# Altium footprint library Connector_PinSocket_2.00mm.PcbLib: 278 footprints (part 9 of 18)
Each footprint in its own frame and in the unit in brackets; x right, y up, seen from the top. Pads: shape width x height; smd on the part's side, far side on the other; paste and mask are expansions set on the pad; w line width, h text height; cw(c..) or ccw(c..) is an arc to the next point about the centre after c.
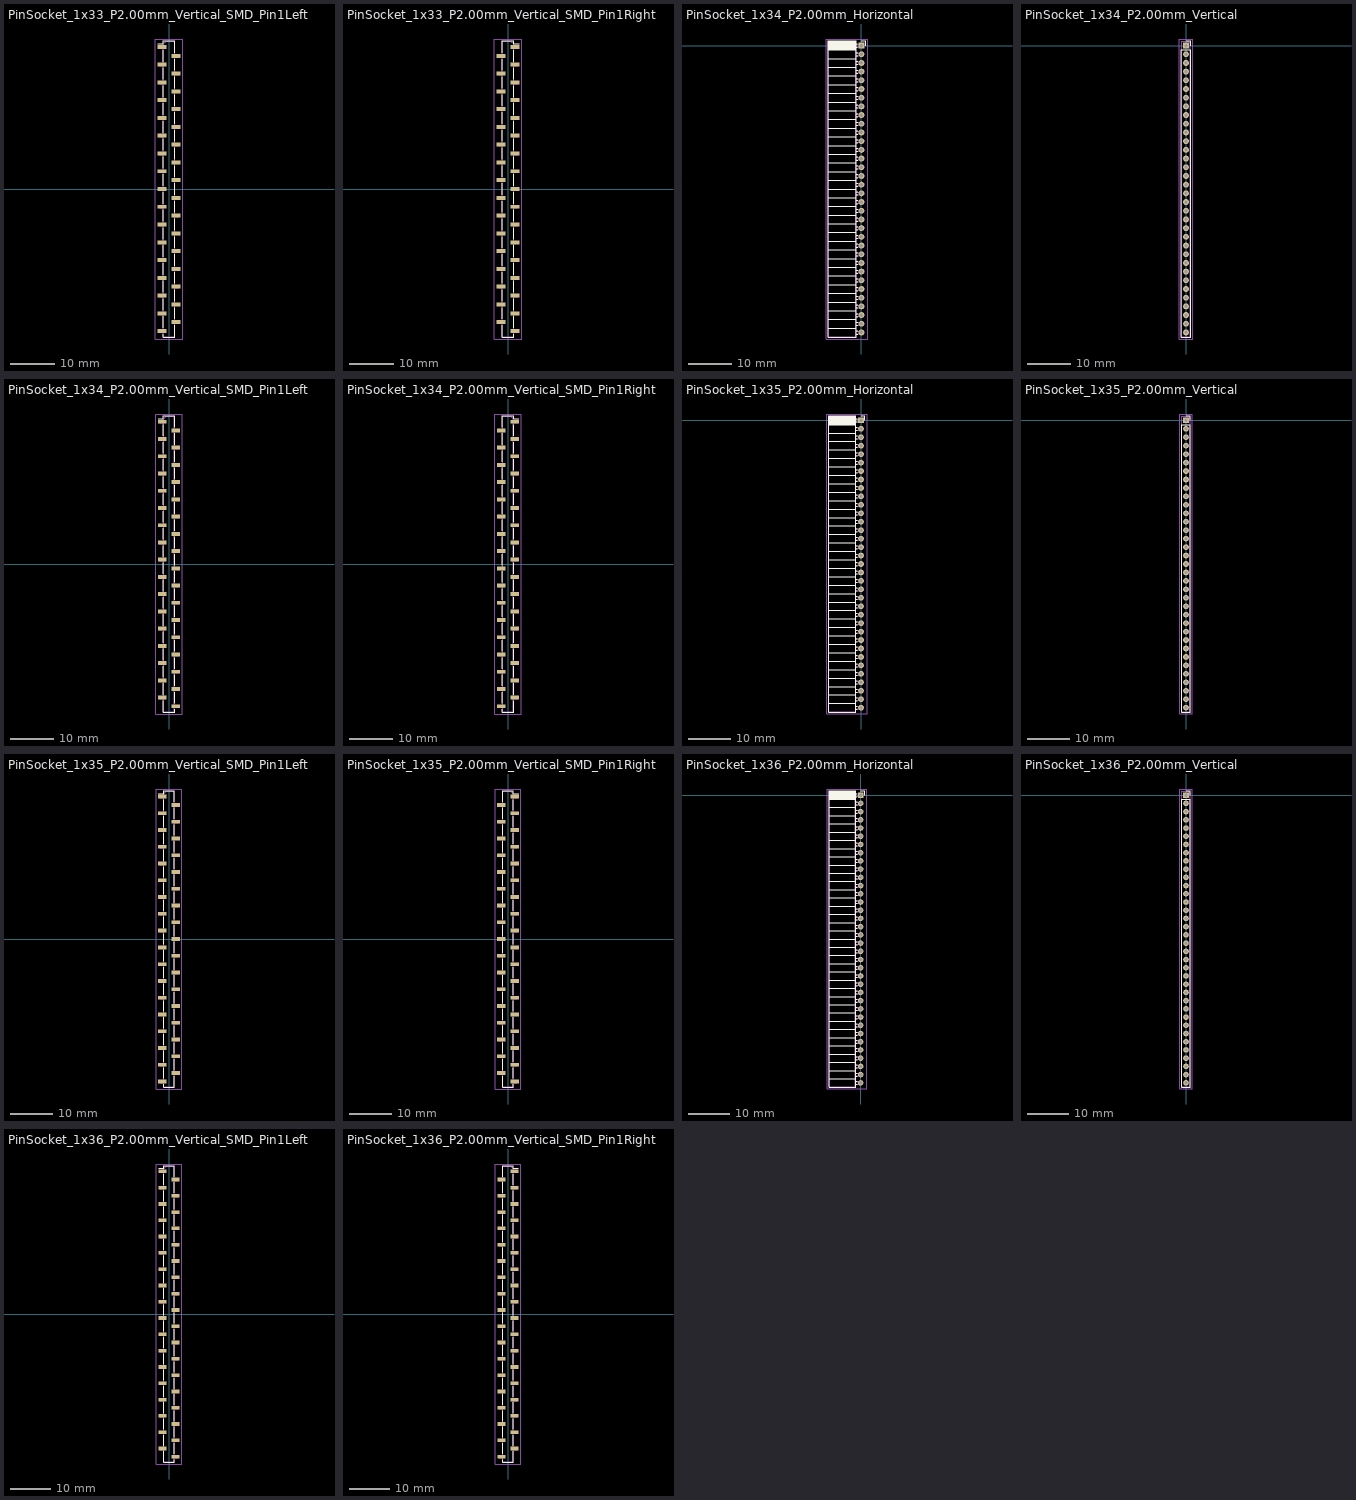
[diagram p8: the footprints below, top view; thin cyan lines are the x and y axes]

## PinSocket_1x33_P2.00mm_Vertical_SMD_Pin1Left [mm]
pads (33):
  rect 2x0.9 smd: 1(-1.6,32) 2(1.6,30) 3(-1.6,28) 4(1.6,26) 5(-1.6,24) 6(1.6,22) 7(-1.6,20) 8(1.6,18) 9(-1.6,16) 10(1.6,14) 11(-1.6,12) 12(1.6,10) 13(-1.6,8) 14(1.6,6) 15(-1.6,4) 16(1.6,2) 17(-1.6,0) 18(1.6,-2) 19(-1.6,-4) 20(1.6,-6) 21(-1.6,-8) 22(1.6,-10) 23(-1.6,-12) 24(1.6,-14) 25(-1.6,-16) 26(1.6,-18) 27(-1.6,-20) 28(1.6,-22) 29(-1.6,-24) 30(1.6,-26) 31(-1.6,-28) 32(1.6,-30) 33(-1.6,-32)
F.SilkS:
  lines w0.254: -2.54,32.71 -1.31,32.71 -1.31,33.36 1.31,33.36 1.31,30.71 ; -1.31,-32.71 -1.31,-33.36 1.31,-33.36 1.31,-30.71 ; -1.31,-31.29 -1.31,-28.71 ; -1.31,-27.29 -1.31,-24.71 ; -1.31,-23.29 -1.31,-20.71 ; -1.31,-19.29 -1.31,-16.71 ; -1.31,-15.29 -1.31,-12.71 ; -1.31,-11.29 -1.31,-8.71 ; -1.31,-7.29 -1.31,-4.71 ; -1.31,-3.29 -1.31,-0.71 ; -1.31,0.71 -1.31,3.29 ; -1.31,4.71 -1.31,7.29 ; -1.31,8.71 -1.31,11.29 ; -1.31,12.71 -1.31,15.29 ; -1.31,16.71 -1.31,19.29 ; -1.31,20.71 -1.31,23.29 ; -1.31,24.71 -1.31,27.29 ; -1.31,28.71 -1.31,31.29 ; 1.31,-29.29 1.31,-26.71 ; 1.31,-25.29 1.31,-22.71 ; 1.31,-21.29 1.31,-18.71 ; 1.31,-17.29 1.31,-14.71 ; 1.31,-13.29 1.31,-10.71 ; 1.31,-9.29 1.31,-6.71 ; 1.31,-5.29 1.31,-2.71 ; 1.31,-1.29 1.31,1.29 ; 1.31,2.71 1.31,5.29 ; 1.31,6.71 1.31,9.29 ; 1.31,10.71 1.31,13.29 ; 1.31,14.71 1.31,17.29 ; 1.31,18.71 1.31,21.29 ; 1.31,22.71 1.31,25.29 ; 1.31,26.71 1.31,29.29
Top Assembly:
  lines w0.254: -1.25,-32.25 -2.1,-32.25 -2.1,-31.75 -1.25,-31.75 ; -1.25,-28.25 -2.1,-28.25 -2.1,-27.75 -1.25,-27.75 ; -1.25,-24.25 -2.1,-24.25 -2.1,-23.75 -1.25,-23.75 ; -1.25,-20.25 -2.1,-20.25 -2.1,-19.75 -1.25,-19.75 ; -1.25,-16.25 -2.1,-16.25 -2.1,-15.75 -1.25,-15.75 ; -1.25,-12.25 -2.1,-12.25 -2.1,-11.75 -1.25,-11.75 ; -1.25,-8.25 -2.1,-8.25 -2.1,-7.75 -1.25,-7.75 ; -1.25,-4.25 -2.1,-4.25 -2.1,-3.75 -1.25,-3.75 ; -1.25,-0.25 -2.1,-0.25 -2.1,0.25 -1.25,0.25 ; -1.25,3.75 -2.1,3.75 -2.1,4.25 -1.25,4.25 ; -1.25,7.75 -2.1,7.75 -2.1,8.25 -1.25,8.25 ; -1.25,11.75 -2.1,11.75 -2.1,12.25 -1.25,12.25 ; -1.25,15.75 -2.1,15.75 -2.1,16.25 -1.25,16.25 ; -1.25,19.75 -2.1,19.75 -2.1,20.25 -1.25,20.25 ; -1.25,23.75 -2.1,23.75 -2.1,24.25 -1.25,24.25 ; -1.25,27.75 -2.1,27.75 -2.1,28.25 -1.25,28.25 ; -1.25,31.75 -2.1,31.75 -2.1,32.25 -1.25,32.25 ; 1.25,-30.25 2.1,-30.25 2.1,-29.75 1.25,-29.75 ; 1.25,-26.25 2.1,-26.25 2.1,-25.75 1.25,-25.75 ; 1.25,-22.25 2.1,-22.25 2.1,-21.75 1.25,-21.75 ; 1.25,-18.25 2.1,-18.25 2.1,-17.75 1.25,-17.75 ; 1.25,-14.25 2.1,-14.25 2.1,-13.75 1.25,-13.75 ; 1.25,-10.25 2.1,-10.25 2.1,-9.75 1.25,-9.75 ; 1.25,-6.25 2.1,-6.25 2.1,-5.75 1.25,-5.75 ; 1.25,-2.25 2.1,-2.25 2.1,-1.75 1.25,-1.75 ; 1.25,1.75 2.1,1.75 2.1,2.25 1.25,2.25 ; 1.25,5.75 2.1,5.75 2.1,6.25 1.25,6.25 ; 1.25,9.75 2.1,9.75 2.1,10.25 1.25,10.25 ; 1.25,13.75 2.1,13.75 2.1,14.25 1.25,14.25 ; 1.25,17.75 2.1,17.75 2.1,18.25 1.25,18.25 ; 1.25,21.75 2.1,21.75 2.1,22.25 1.25,22.25 ; 1.25,25.75 2.1,25.75 2.1,26.25 1.25,26.25 ; 1.25,29.75 2.1,29.75 2.1,30.25 1.25,30.25 ; -1.25,-33.3 1.25,-33.3 1.25,33.3 -0.625,33.3 -1.25,32.675 -1.25,-33.3
  text "'.Designator'" at 0.84,-4.047 h1
Top Courtyard:
  lines w0.254: -3.1,-33.8 3.1,-33.8 3.1,33.8 -3.1,33.8 -3.1,-33.8
Top Designator:
  text ".Designator" at -7.618,-0.508 h1.52

## PinSocket_1x33_P2.00mm_Vertical_SMD_Pin1Right [mm]
pads (33):
  rect 2x0.9 smd: 1(1.6,32) 2(-1.6,30) 3(1.6,28) 4(-1.6,26) 5(1.6,24) 6(-1.6,22) 7(1.6,20) 8(-1.6,18) 9(1.6,16) 10(-1.6,14) 11(1.6,12) 12(-1.6,10) 13(1.6,8) 14(-1.6,6) 15(1.6,4) 16(-1.6,2) 17(1.6,0) 18(-1.6,-2) 19(1.6,-4) 20(-1.6,-6) 21(1.6,-8) 22(-1.6,-10) 23(1.6,-12) 24(-1.6,-14) 25(1.6,-16) 26(-1.6,-18) 27(1.6,-20) 28(-1.6,-22) 29(1.6,-24) 30(-1.6,-26) 31(1.6,-28) 32(-1.6,-30) 33(1.6,-32)
F.SilkS:
  lines w0.254: -1.31,-30.71 -1.31,-33.36 1.31,-33.36 1.31,-32.71 ; -1.31,-29.29 -1.31,-26.71 ; -1.31,-25.29 -1.31,-22.71 ; -1.31,-21.29 -1.31,-18.71 ; -1.31,-17.29 -1.31,-14.71 ; -1.31,-13.29 -1.31,-10.71 ; -1.31,-9.29 -1.31,-6.71 ; -1.31,-5.29 -1.31,-2.71 ; -1.31,-1.29 -1.31,1.29 ; -1.31,2.71 -1.31,5.29 ; -1.31,6.71 -1.31,9.29 ; -1.31,10.71 -1.31,13.29 ; -1.31,14.71 -1.31,17.29 ; -1.31,18.71 -1.31,21.29 ; -1.31,22.71 -1.31,25.29 ; -1.31,26.71 -1.31,29.29 ; -1.31,30.71 -1.31,33.36 1.31,33.36 1.31,32.71 2.54,32.71 ; 1.31,-31.29 1.31,-28.71 ; 1.31,-27.29 1.31,-24.71 ; 1.31,-23.29 1.31,-20.71 ; 1.31,-19.29 1.31,-16.71 ; 1.31,-15.29 1.31,-12.71 ; 1.31,-11.29 1.31,-8.71 ; 1.31,-7.29 1.31,-4.71 ; 1.31,-3.29 1.31,-0.71 ; 1.31,0.71 1.31,3.29 ; 1.31,4.71 1.31,7.29 ; 1.31,8.71 1.31,11.29 ; 1.31,12.71 1.31,15.29 ; 1.31,16.71 1.31,19.29 ; 1.31,20.71 1.31,23.29 ; 1.31,24.71 1.31,27.29 ; 1.31,28.71 1.31,31.29
Top Assembly:
  lines w0.254: -1.25,-30.25 -2.1,-30.25 -2.1,-29.75 -1.25,-29.75 ; -1.25,-26.25 -2.1,-26.25 -2.1,-25.75 -1.25,-25.75 ; -1.25,-22.25 -2.1,-22.25 -2.1,-21.75 -1.25,-21.75 ; -1.25,-18.25 -2.1,-18.25 -2.1,-17.75 -1.25,-17.75 ; -1.25,-14.25 -2.1,-14.25 -2.1,-13.75 -1.25,-13.75 ; -1.25,-10.25 -2.1,-10.25 -2.1,-9.75 -1.25,-9.75 ; -1.25,-6.25 -2.1,-6.25 -2.1,-5.75 -1.25,-5.75 ; -1.25,-2.25 -2.1,-2.25 -2.1,-1.75 -1.25,-1.75 ; -1.25,1.75 -2.1,1.75 -2.1,2.25 -1.25,2.25 ; -1.25,5.75 -2.1,5.75 -2.1,6.25 -1.25,6.25 ; -1.25,9.75 -2.1,9.75 -2.1,10.25 -1.25,10.25 ; -1.25,13.75 -2.1,13.75 -2.1,14.25 -1.25,14.25 ; -1.25,17.75 -2.1,17.75 -2.1,18.25 -1.25,18.25 ; -1.25,21.75 -2.1,21.75 -2.1,22.25 -1.25,22.25 ; -1.25,25.75 -2.1,25.75 -2.1,26.25 -1.25,26.25 ; -1.25,29.75 -2.1,29.75 -2.1,30.25 -1.25,30.25 ; 1.25,-32.25 2.1,-32.25 2.1,-31.75 1.25,-31.75 ; 1.25,-28.25 2.1,-28.25 2.1,-27.75 1.25,-27.75 ; 1.25,-24.25 2.1,-24.25 2.1,-23.75 1.25,-23.75 ; 1.25,-20.25 2.1,-20.25 2.1,-19.75 1.25,-19.75 ; 1.25,-16.25 2.1,-16.25 2.1,-15.75 1.25,-15.75 ; 1.25,-12.25 2.1,-12.25 2.1,-11.75 1.25,-11.75 ; 1.25,-8.25 2.1,-8.25 2.1,-7.75 1.25,-7.75 ; 1.25,-4.25 2.1,-4.25 2.1,-3.75 1.25,-3.75 ; 1.25,-0.25 2.1,-0.25 2.1,0.25 1.25,0.25 ; 1.25,3.75 2.1,3.75 2.1,4.25 1.25,4.25 ; 1.25,7.75 2.1,7.75 2.1,8.25 1.25,8.25 ; 1.25,11.75 2.1,11.75 2.1,12.25 1.25,12.25 ; 1.25,15.75 2.1,15.75 2.1,16.25 1.25,16.25 ; 1.25,19.75 2.1,19.75 2.1,20.25 1.25,20.25 ; 1.25,23.75 2.1,23.75 2.1,24.25 1.25,24.25 ; 1.25,27.75 2.1,27.75 2.1,28.25 1.25,28.25 ; 1.25,31.75 2.1,31.75 2.1,32.25 1.25,32.25 ; -1.25,-33.3 1.25,-33.3 1.25,32.675 0.625,33.3 -1.25,33.3 -1.25,-33.3
  text "'.Designator'" at 0.84,-4.047 h1
Top Courtyard:
  lines w0.254: -3.1,-33.8 3.1,-33.8 3.1,33.8 -3.1,33.8 -3.1,-33.8
Top Designator:
  text ".Designator" at -7.618,-0.508 h1.52

## PinSocket_1x34_P2.00mm_Horizontal [mm]
pads (34):
  rect 1.35x1.35 hole 0.8: 1(0,0)
  round 1.35 hole 0.8: 2(0,-2) 3(0,-4) 4(0,-6) 5(0,-8) 6(0,-10) 7(0,-12) 8(0,-14) 9(0,-16) 10(0,-18) 11(0,-20) 12(0,-22) 13(0,-24) 14(0,-26) 15(0,-28) 16(0,-30) 17(0,-32) 18(0,-34) 19(0,-36) 20(0,-38) 21(0,-40) 22(0,-42) 23(0,-44) 24(0,-46) 25(0,-48) 26(0,-50) 27(0,-52) 28(0,-54) 29(0,-56) 30(0,-58) 31(0,-60) 32(0,-62) 33(0,-64) 34(0,-66)
F.SilkS:
  lines w0.254: -7.68,-65 -1.21,-65 ; -7.68,-63 -1.21,-63 ; -7.68,-61 -1.21,-61 ; -7.68,-59 -1.21,-59 ; -7.68,-57 -1.21,-57 ; -7.68,-55 -1.21,-55 ; -7.68,-53 -1.21,-53 ; -7.68,-51 -1.21,-51 ; -7.68,-49 -1.21,-49 ; -7.68,-47 -1.21,-47 ; -7.68,-45 -1.21,-45 ; -7.68,-43 -1.21,-43 ; -7.68,-41 -1.21,-41 ; -7.68,-39 -1.21,-39 ; -7.68,-37 -1.21,-37 ; -7.68,-35 -1.21,-35 ; -7.68,-33 -1.21,-33 ; -7.68,-31 -1.21,-31 ; -7.68,-29 -1.21,-29 ; -7.68,-27 -1.21,-27 ; -7.68,-25 -1.21,-25 ; -7.68,-23 -1.21,-23 ; -7.68,-21 -1.21,-21 ; -7.68,-19 -1.21,-19 ; -7.68,-17 -1.21,-17 ; -7.68,-15 -1.21,-15 ; -7.68,-13 -1.21,-13 ; -7.68,-11 -1.21,-11 ; -7.68,-9 -1.21,-9 ; -7.68,-7 -1.21,-7 ; -7.68,-5 -1.21,-5 ; -7.68,-3 -1.21,-3 ; -7.68,-1 -1.21,-1 ; -7.68,-0.886 -1.21,-0.886 ; -7.68,-0.772 -1.21,-0.772 ; -7.68,-0.658 -1.21,-0.658 ; -7.68,-0.544 -1.21,-0.544 ; -7.68,-0.429 -1.21,-0.429 ; -7.68,-0.315 -1.21,-0.315 ; -7.68,-0.201 -1.21,-0.201 ; -7.68,-0.087 -1.21,-0.087 ; -7.68,0.027 -1.21,0.027 ; -7.68,0.141 -1.21,0.141 ; -7.68,0.255 -1.21,0.255 ; -7.68,0.369 -1.21,0.369 ; -7.68,0.484 -1.21,0.484 ; -7.68,0.598 -1.21,0.598 ; -7.68,0.712 -1.21,0.712 ; -7.68,0.826 -1.21,0.826 ; -7.68,0.94 -1.21,0.94 ; -1.21,-66.36 -0.863,-66.36 ; -1.21,-65.64 -0.863,-65.64 ; -1.21,-64.36 -0.863,-64.36 ; -1.21,-63.64 -0.863,-63.64 ; -1.21,-62.36 -0.863,-62.36 ; -1.21,-61.64 -0.863,-61.64 ; -1.21,-60.36 -0.863,-60.36 ; -1.21,-59.64 -0.863,-59.64 ; -1.21,-58.36 -0.863,-58.36 ; -1.21,-57.64 -0.863,-57.64 ; -1.21,-56.36 -0.863,-56.36 ; -1.21,-55.64 -0.863,-55.64 ; -1.21,-54.36 -0.863,-54.36 ; -1.21,-53.64 -0.863,-53.64 ; -1.21,-52.36 -0.863,-52.36 ; -1.21,-51.64 -0.863,-51.64 ; -1.21,-50.36 -0.863,-50.36 ; -1.21,-49.64 -0.863,-49.64 ; -1.21,-48.36 -0.863,-48.36 ; -1.21,-47.64 -0.863,-47.64 ; -1.21,-46.36 -0.863,-46.36 ; -1.21,-45.64 -0.863,-45.64 ; -1.21,-44.36 -0.863,-44.36 ; -1.21,-43.64 -0.863,-43.64 ; -1.21,-42.36 -0.863,-42.36 ; -1.21,-41.64 -0.863,-41.64 ; -1.21,-40.36 -0.863,-40.36 ; -1.21,-39.64 -0.863,-39.64 ; -1.21,-38.36 -0.863,-38.36 ; -1.21,-37.64 -0.863,-37.64 ; -1.21,-36.36 -0.863,-36.36 ; -1.21,-35.64 -0.863,-35.64 ; -1.21,-34.36 -0.863,-34.36 ; -1.21,-33.64 -0.863,-33.64 ; -1.21,-32.36 -0.863,-32.36 ; -1.21,-31.64 -0.863,-31.64 ; -1.21,-30.36 -0.863,-30.36 ; -1.21,-29.64 -0.863,-29.64 ; -1.21,-28.36 -0.863,-28.36 ; -1.21,-27.64 -0.863,-27.64 ; -1.21,-26.36 -0.863,-26.36 ; -1.21,-25.64 -0.863,-25.64 ; -1.21,-24.36 -0.863,-24.36 ; -1.21,-23.64 -0.863,-23.64 ; -1.21,-22.36 -0.863,-22.36 ; -1.21,-21.64 -0.863,-21.64 ; -1.21,-20.36 -0.863,-20.36 ; -1.21,-19.64 -0.863,-19.64 ; -1.21,-18.36 -0.863,-18.36 ; -1.21,-17.64 -0.863,-17.64 ; -1.21,-16.36 -0.863,-16.36 ; -1.21,-15.64 -0.863,-15.64 ; -1.21,-14.36 -0.863,-14.36 ; -1.21,-13.64 -0.863,-13.64 ; -1.21,-12.36 -0.863,-12.36 ; -1.21,-11.64 -0.863,-11.64 ; -1.21,-10.36 -0.863,-10.36 ; -1.21,-9.64 -0.863,-9.64 ; -1.21,-8.36 -0.863,-8.36 ; -1.21,-7.64 -0.863,-7.64 ; -1.21,-6.36 -0.863,-6.36 ; -1.21,-5.64 -0.863,-5.64 ; -1.21,-4.36 -0.863,-4.36 ; -1.21,-3.64 -0.863,-3.64 ; -1.21,-2.36 -0.863,-2.36 ; -1.21,-1.64 -0.863,-1.64 ; -1.21,-0.36 -0.935,-0.36 ; -1.21,0.36 -0.935,0.36 ; 0,1.06 0.935,1.06 0.935,0 ; -7.68,-67.06 -1.21,-67.06 -1.21,1.06 -7.68,1.06 -7.68,-67.06
Top Assembly:
  lines w0.254: -1.27,-66.3 0,-66.3 0,-65.7 -1.27,-65.7 ; -1.27,-64.3 0,-64.3 0,-63.7 -1.27,-63.7 ; -1.27,-62.3 0,-62.3 0,-61.7 -1.27,-61.7 ; -1.27,-60.3 0,-60.3 0,-59.7 -1.27,-59.7 ; -1.27,-58.3 0,-58.3 0,-57.7 -1.27,-57.7 ; -1.27,-56.3 0,-56.3 0,-55.7 -1.27,-55.7 ; -1.27,-54.3 0,-54.3 0,-53.7 -1.27,-53.7 ; -1.27,-52.3 0,-52.3 0,-51.7 -1.27,-51.7 ; -1.27,-50.3 0,-50.3 0,-49.7 -1.27,-49.7 ; -1.27,-48.3 0,-48.3 0,-47.7 -1.27,-47.7 ; -1.27,-46.3 0,-46.3 0,-45.7 -1.27,-45.7 ; -1.27,-44.3 0,-44.3 0,-43.7 -1.27,-43.7 ; -1.27,-42.3 0,-42.3 0,-41.7 -1.27,-41.7 ; -1.27,-40.3 0,-40.3 0,-39.7 -1.27,-39.7 ; -1.27,-38.3 0,-38.3 0,-37.7 -1.27,-37.7 ; -1.27,-36.3 0,-36.3 0,-35.7 -1.27,-35.7 ; -1.27,-34.3 0,-34.3 0,-33.7 -1.27,-33.7 ; -1.27,-32.3 0,-32.3 0,-31.7 -1.27,-31.7 ; -1.27,-30.3 0,-30.3 0,-29.7 -1.27,-29.7 ; -1.27,-28.3 0,-28.3 0,-27.7 -1.27,-27.7 ; -1.27,-26.3 0,-26.3 0,-25.7 -1.27,-25.7 ; -1.27,-24.3 0,-24.3 0,-23.7 -1.27,-23.7 ; -1.27,-22.3 0,-22.3 0,-21.7 -1.27,-21.7 ; -1.27,-20.3 0,-20.3 0,-19.7 -1.27,-19.7 ; -1.27,-18.3 0,-18.3 0,-17.7 -1.27,-17.7 ; -1.27,-16.3 0,-16.3 0,-15.7 -1.27,-15.7 ; -1.27,-14.3 0,-14.3 0,-13.7 -1.27,-13.7 ; -1.27,-12.3 0,-12.3 0,-11.7 -1.27,-11.7 ; -1.27,-10.3 0,-10.3 0,-9.7 -1.27,-9.7 ; -1.27,-8.3 0,-8.3 0,-7.7 -1.27,-7.7 ; -1.27,-6.3 0,-6.3 0,-5.7 -1.27,-5.7 ; -1.27,-4.3 0,-4.3 0,-3.7 -1.27,-3.7 ; -1.27,-2.3 0,-2.3 0,-1.7 -1.27,-1.7 ; -1.27,-0.3 0,-0.3 0,0.3 -1.27,0.3 ; -1.27,0.3 -1.27,-67 -7.62,-67 -7.62,1 -1.97,1 -1.27,0.3
  text "'.Designator'" at -3.605,-37.047 h1
Top Courtyard:
  lines w0.254: -8.15,-67.5 1.5,-67.5 1.5,1.5 -8.15,1.5 -8.15,-67.5
Top Designator:
  text ".Designator" at -10.943,-33.508 h1.52

## PinSocket_1x34_P2.00mm_Vertical [mm]
pads (34):
  rect 1.35x1.35 hole 0.8: 1(0,0)
  round 1.35 hole 0.8: 2(0,-2) 3(0,-4) 4(0,-6) 5(0,-8) 6(0,-10) 7(0,-12) 8(0,-14) 9(0,-16) 10(0,-18) 11(0,-20) 12(0,-22) 13(0,-24) 14(0,-26) 15(0,-28) 16(0,-30) 17(0,-32) 18(0,-34) 19(0,-36) 20(0,-38) 21(0,-40) 22(0,-42) 23(0,-44) 24(0,-46) 25(0,-48) 26(0,-50) 27(0,-52) 28(0,-54) 29(0,-56) 30(0,-58) 31(0,-60) 32(0,-62) 33(0,-64) 34(0,-66)
F.SilkS:
  lines w0.254: 0,1.06 1.06,1.06 1.06,0 ; -1.06,-67.06 1.06,-67.06 1.06,-1 -1.06,-1 -1.06,-67.06
Top Assembly:
  lines w0.254: -1,-67 1,-67 1,0.5 0.5,1 -1,1 -1,-67
  text "'.Designator'" at 0.84,-37.047 h1
Top Courtyard:
  lines w0.254: -1.5,-67.5 1.5,-67.5 1.5,1.5 -1.5,1.5 -1.5,-67.5
Top Designator:
  text ".Designator" at -7.618,-33.508 h1.52

## PinSocket_1x34_P2.00mm_Vertical_SMD_Pin1Left [mm]
pads (34):
  rect 2x0.9 smd: 1(-1.6,33) 2(1.6,31) 3(-1.6,29) 4(1.6,27) 5(-1.6,25) 6(1.6,23) 7(-1.6,21) 8(1.6,19) 9(-1.6,17) 10(1.6,15) 11(-1.6,13) 12(1.6,11) 13(-1.6,9) 14(1.6,7) 15(-1.6,5) 16(1.6,3) 17(-1.6,1) 18(1.6,-1) 19(-1.6,-3) 20(1.6,-5) 21(-1.6,-7) 22(1.6,-9) 23(-1.6,-11) 24(1.6,-13) 25(-1.6,-15) 26(1.6,-17) 27(-1.6,-19) 28(1.6,-21) 29(-1.6,-23) 30(1.6,-25) 31(-1.6,-27) 32(1.6,-29) 33(-1.6,-31) 34(1.6,-33)
F.SilkS:
  lines w0.254: -2.54,33.71 -1.31,33.71 -1.31,34.36 1.31,34.36 1.31,31.71 ; -1.31,-31.71 -1.31,-34.36 1.31,-34.36 1.31,-33.71 ; -1.31,-30.29 -1.31,-27.71 ; -1.31,-26.29 -1.31,-23.71 ; -1.31,-22.29 -1.31,-19.71 ; -1.31,-18.29 -1.31,-15.71 ; -1.31,-14.29 -1.31,-11.71 ; -1.31,-10.29 -1.31,-7.71 ; -1.31,-6.29 -1.31,-3.71 ; -1.31,-2.29 -1.31,0.29 ; -1.31,1.71 -1.31,4.29 ; -1.31,5.71 -1.31,8.29 ; -1.31,9.71 -1.31,12.29 ; -1.31,13.71 -1.31,16.29 ; -1.31,17.71 -1.31,20.29 ; -1.31,21.71 -1.31,24.29 ; -1.31,25.71 -1.31,28.29 ; -1.31,29.71 -1.31,32.29 ; 1.31,-32.29 1.31,-29.71 ; 1.31,-28.29 1.31,-25.71 ; 1.31,-24.29 1.31,-21.71 ; 1.31,-20.29 1.31,-17.71 ; 1.31,-16.29 1.31,-13.71 ; 1.31,-12.29 1.31,-9.71 ; 1.31,-8.29 1.31,-5.71 ; 1.31,-4.29 1.31,-1.71 ; 1.31,-0.29 1.31,2.29 ; 1.31,3.71 1.31,6.29 ; 1.31,7.71 1.31,10.29 ; 1.31,11.71 1.31,14.29 ; 1.31,15.71 1.31,18.29 ; 1.31,19.71 1.31,22.29 ; 1.31,23.71 1.31,26.29 ; 1.31,27.71 1.31,30.29
Top Assembly:
  lines w0.254: -1.25,-31.25 -2.1,-31.25 -2.1,-30.75 -1.25,-30.75 ; -1.25,-27.25 -2.1,-27.25 -2.1,-26.75 -1.25,-26.75 ; -1.25,-23.25 -2.1,-23.25 -2.1,-22.75 -1.25,-22.75 ; -1.25,-19.25 -2.1,-19.25 -2.1,-18.75 -1.25,-18.75 ; -1.25,-15.25 -2.1,-15.25 -2.1,-14.75 -1.25,-14.75 ; -1.25,-11.25 -2.1,-11.25 -2.1,-10.75 -1.25,-10.75 ; -1.25,-7.25 -2.1,-7.25 -2.1,-6.75 -1.25,-6.75 ; -1.25,-3.25 -2.1,-3.25 -2.1,-2.75 -1.25,-2.75 ; -1.25,0.75 -2.1,0.75 -2.1,1.25 -1.25,1.25 ; -1.25,4.75 -2.1,4.75 -2.1,5.25 -1.25,5.25 ; -1.25,8.75 -2.1,8.75 -2.1,9.25 -1.25,9.25 ; -1.25,12.75 -2.1,12.75 -2.1,13.25 -1.25,13.25 ; -1.25,16.75 -2.1,16.75 -2.1,17.25 -1.25,17.25 ; -1.25,20.75 -2.1,20.75 -2.1,21.25 -1.25,21.25 ; -1.25,24.75 -2.1,24.75 -2.1,25.25 -1.25,25.25 ; -1.25,28.75 -2.1,28.75 -2.1,29.25 -1.25,29.25 ; -1.25,32.75 -2.1,32.75 -2.1,33.25 -1.25,33.25 ; 1.25,-33.25 2.1,-33.25 2.1,-32.75 1.25,-32.75 ; 1.25,-29.25 2.1,-29.25 2.1,-28.75 1.25,-28.75 ; 1.25,-25.25 2.1,-25.25 2.1,-24.75 1.25,-24.75 ; 1.25,-21.25 2.1,-21.25 2.1,-20.75 1.25,-20.75 ; 1.25,-17.25 2.1,-17.25 2.1,-16.75 1.25,-16.75 ; 1.25,-13.25 2.1,-13.25 2.1,-12.75 1.25,-12.75 ; 1.25,-9.25 2.1,-9.25 2.1,-8.75 1.25,-8.75 ; 1.25,-5.25 2.1,-5.25 2.1,-4.75 1.25,-4.75 ; 1.25,-1.25 2.1,-1.25 2.1,-0.75 1.25,-0.75 ; 1.25,2.75 2.1,2.75 2.1,3.25 1.25,3.25 ; 1.25,6.75 2.1,6.75 2.1,7.25 1.25,7.25 ; 1.25,10.75 2.1,10.75 2.1,11.25 1.25,11.25 ; 1.25,14.75 2.1,14.75 2.1,15.25 1.25,15.25 ; 1.25,18.75 2.1,18.75 2.1,19.25 1.25,19.25 ; 1.25,22.75 2.1,22.75 2.1,23.25 1.25,23.25 ; 1.25,26.75 2.1,26.75 2.1,27.25 1.25,27.25 ; 1.25,30.75 2.1,30.75 2.1,31.25 1.25,31.25 ; -1.25,-34.3 1.25,-34.3 1.25,34.3 -0.625,34.3 -1.25,33.675 -1.25,-34.3
  text "'.Designator'" at 0.84,-4.047 h1
Top Courtyard:
  lines w0.254: -3.1,-34.8 3.1,-34.8 3.1,34.8 -3.1,34.8 -3.1,-34.8
Top Designator:
  text ".Designator" at -7.618,-0.508 h1.52

## PinSocket_1x34_P2.00mm_Vertical_SMD_Pin1Right [mm]
pads (34):
  rect 2x0.9 smd: 1(1.6,33) 2(-1.6,31) 3(1.6,29) 4(-1.6,27) 5(1.6,25) 6(-1.6,23) 7(1.6,21) 8(-1.6,19) 9(1.6,17) 10(-1.6,15) 11(1.6,13) 12(-1.6,11) 13(1.6,9) 14(-1.6,7) 15(1.6,5) 16(-1.6,3) 17(1.6,1) 18(-1.6,-1) 19(1.6,-3) 20(-1.6,-5) 21(1.6,-7) 22(-1.6,-9) 23(1.6,-11) 24(-1.6,-13) 25(1.6,-15) 26(-1.6,-17) 27(1.6,-19) 28(-1.6,-21) 29(1.6,-23) 30(-1.6,-25) 31(1.6,-27) 32(-1.6,-29) 33(1.6,-31) 34(-1.6,-33)
F.SilkS:
  lines w0.254: -1.31,-33.71 -1.31,-34.36 1.31,-34.36 1.31,-31.71 ; -1.31,-32.29 -1.31,-29.71 ; -1.31,-28.29 -1.31,-25.71 ; -1.31,-24.29 -1.31,-21.71 ; -1.31,-20.29 -1.31,-17.71 ; -1.31,-16.29 -1.31,-13.71 ; -1.31,-12.29 -1.31,-9.71 ; -1.31,-8.29 -1.31,-5.71 ; -1.31,-4.29 -1.31,-1.71 ; -1.31,-0.29 -1.31,2.29 ; -1.31,3.71 -1.31,6.29 ; -1.31,7.71 -1.31,10.29 ; -1.31,11.71 -1.31,14.29 ; -1.31,15.71 -1.31,18.29 ; -1.31,19.71 -1.31,22.29 ; -1.31,23.71 -1.31,26.29 ; -1.31,27.71 -1.31,30.29 ; -1.31,31.71 -1.31,34.36 1.31,34.36 1.31,33.71 2.54,33.71 ; 1.31,-30.29 1.31,-27.71 ; 1.31,-26.29 1.31,-23.71 ; 1.31,-22.29 1.31,-19.71 ; 1.31,-18.29 1.31,-15.71 ; 1.31,-14.29 1.31,-11.71 ; 1.31,-10.29 1.31,-7.71 ; 1.31,-6.29 1.31,-3.71 ; 1.31,-2.29 1.31,0.29 ; 1.31,1.71 1.31,4.29 ; 1.31,5.71 1.31,8.29 ; 1.31,9.71 1.31,12.29 ; 1.31,13.71 1.31,16.29 ; 1.31,17.71 1.31,20.29 ; 1.31,21.71 1.31,24.29 ; 1.31,25.71 1.31,28.29 ; 1.31,29.71 1.31,32.29
Top Assembly:
  lines w0.254: -1.25,-33.25 -2.1,-33.25 -2.1,-32.75 -1.25,-32.75 ; -1.25,-29.25 -2.1,-29.25 -2.1,-28.75 -1.25,-28.75 ; -1.25,-25.25 -2.1,-25.25 -2.1,-24.75 -1.25,-24.75 ; -1.25,-21.25 -2.1,-21.25 -2.1,-20.75 -1.25,-20.75 ; -1.25,-17.25 -2.1,-17.25 -2.1,-16.75 -1.25,-16.75 ; -1.25,-13.25 -2.1,-13.25 -2.1,-12.75 -1.25,-12.75 ; -1.25,-9.25 -2.1,-9.25 -2.1,-8.75 -1.25,-8.75 ; -1.25,-5.25 -2.1,-5.25 -2.1,-4.75 -1.25,-4.75 ; -1.25,-1.25 -2.1,-1.25 -2.1,-0.75 -1.25,-0.75 ; -1.25,2.75 -2.1,2.75 -2.1,3.25 -1.25,3.25 ; -1.25,6.75 -2.1,6.75 -2.1,7.25 -1.25,7.25 ; -1.25,10.75 -2.1,10.75 -2.1,11.25 -1.25,11.25 ; -1.25,14.75 -2.1,14.75 -2.1,15.25 -1.25,15.25 ; -1.25,18.75 -2.1,18.75 -2.1,19.25 -1.25,19.25 ; -1.25,22.75 -2.1,22.75 -2.1,23.25 -1.25,23.25 ; -1.25,26.75 -2.1,26.75 -2.1,27.25 -1.25,27.25 ; -1.25,30.75 -2.1,30.75 -2.1,31.25 -1.25,31.25 ; 1.25,-31.25 2.1,-31.25 2.1,-30.75 1.25,-30.75 ; 1.25,-27.25 2.1,-27.25 2.1,-26.75 1.25,-26.75 ; 1.25,-23.25 2.1,-23.25 2.1,-22.75 1.25,-22.75 ; 1.25,-19.25 2.1,-19.25 2.1,-18.75 1.25,-18.75 ; 1.25,-15.25 2.1,-15.25 2.1,-14.75 1.25,-14.75 ; 1.25,-11.25 2.1,-11.25 2.1,-10.75 1.25,-10.75 ; 1.25,-7.25 2.1,-7.25 2.1,-6.75 1.25,-6.75 ; 1.25,-3.25 2.1,-3.25 2.1,-2.75 1.25,-2.75 ; 1.25,0.75 2.1,0.75 2.1,1.25 1.25,1.25 ; 1.25,4.75 2.1,4.75 2.1,5.25 1.25,5.25 ; 1.25,8.75 2.1,8.75 2.1,9.25 1.25,9.25 ; 1.25,12.75 2.1,12.75 2.1,13.25 1.25,13.25 ; 1.25,16.75 2.1,16.75 2.1,17.25 1.25,17.25 ; 1.25,20.75 2.1,20.75 2.1,21.25 1.25,21.25 ; 1.25,24.75 2.1,24.75 2.1,25.25 1.25,25.25 ; 1.25,28.75 2.1,28.75 2.1,29.25 1.25,29.25 ; 1.25,32.75 2.1,32.75 2.1,33.25 1.25,33.25 ; -1.25,-34.3 1.25,-34.3 1.25,33.675 0.625,34.3 -1.25,34.3 -1.25,-34.3
  text "'.Designator'" at 0.84,-4.047 h1
Top Courtyard:
  lines w0.254: -3.1,-34.8 3.1,-34.8 3.1,34.8 -3.1,34.8 -3.1,-34.8
Top Designator:
  text ".Designator" at -7.618,-0.508 h1.52

## PinSocket_1x35_P2.00mm_Horizontal [mm]
pads (35):
  rect 1.35x1.35 hole 0.8: 1(0,0)
  round 1.35 hole 0.8: 2(0,-2) 3(0,-4) 4(0,-6) 5(0,-8) 6(0,-10) 7(0,-12) 8(0,-14) 9(0,-16) 10(0,-18) 11(0,-20) 12(0,-22) 13(0,-24) 14(0,-26) 15(0,-28) 16(0,-30) 17(0,-32) 18(0,-34) 19(0,-36) 20(0,-38) 21(0,-40) 22(0,-42) 23(0,-44) 24(0,-46) 25(0,-48) 26(0,-50) 27(0,-52) 28(0,-54) 29(0,-56) 30(0,-58) 31(0,-60) 32(0,-62) 33(0,-64) 34(0,-66) 35(0,-68)
F.SilkS:
  lines w0.254: -7.68,-67 -1.21,-67 ; -7.68,-65 -1.21,-65 ; -7.68,-63 -1.21,-63 ; -7.68,-61 -1.21,-61 ; -7.68,-59 -1.21,-59 ; -7.68,-57 -1.21,-57 ; -7.68,-55 -1.21,-55 ; -7.68,-53 -1.21,-53 ; -7.68,-51 -1.21,-51 ; -7.68,-49 -1.21,-49 ; -7.68,-47 -1.21,-47 ; -7.68,-45 -1.21,-45 ; -7.68,-43 -1.21,-43 ; -7.68,-41 -1.21,-41 ; -7.68,-39 -1.21,-39 ; -7.68,-37 -1.21,-37 ; -7.68,-35 -1.21,-35 ; -7.68,-33 -1.21,-33 ; -7.68,-31 -1.21,-31 ; -7.68,-29 -1.21,-29 ; -7.68,-27 -1.21,-27 ; -7.68,-25 -1.21,-25 ; -7.68,-23 -1.21,-23 ; -7.68,-21 -1.21,-21 ; -7.68,-19 -1.21,-19 ; -7.68,-17 -1.21,-17 ; -7.68,-15 -1.21,-15 ; -7.68,-13 -1.21,-13 ; -7.68,-11 -1.21,-11 ; -7.68,-9 -1.21,-9 ; -7.68,-7 -1.21,-7 ; -7.68,-5 -1.21,-5 ; -7.68,-3 -1.21,-3 ; -7.68,-1 -1.21,-1 ; -7.68,-0.886 -1.21,-0.886 ; -7.68,-0.772 -1.21,-0.772 ; -7.68,-0.658 -1.21,-0.658 ; -7.68,-0.544 -1.21,-0.544 ; -7.68,-0.429 -1.21,-0.429 ; -7.68,-0.315 -1.21,-0.315 ; -7.68,-0.201 -1.21,-0.201 ; -7.68,-0.087 -1.21,-0.087 ; -7.68,0.027 -1.21,0.027 ; -7.68,0.141 -1.21,0.141 ; -7.68,0.255 -1.21,0.255 ; -7.68,0.369 -1.21,0.369 ; -7.68,0.484 -1.21,0.484 ; -7.68,0.598 -1.21,0.598 ; -7.68,0.712 -1.21,0.712 ; -7.68,0.826 -1.21,0.826 ; -7.68,0.94 -1.21,0.94 ; -1.21,-68.36 -0.863,-68.36 ; -1.21,-67.64 -0.863,-67.64 ; -1.21,-66.36 -0.863,-66.36 ; -1.21,-65.64 -0.863,-65.64 ; -1.21,-64.36 -0.863,-64.36 ; -1.21,-63.64 -0.863,-63.64 ; -1.21,-62.36 -0.863,-62.36 ; -1.21,-61.64 -0.863,-61.64 ; -1.21,-60.36 -0.863,-60.36 ; -1.21,-59.64 -0.863,-59.64 ; -1.21,-58.36 -0.863,-58.36 ; -1.21,-57.64 -0.863,-57.64 ; -1.21,-56.36 -0.863,-56.36 ; -1.21,-55.64 -0.863,-55.64 ; -1.21,-54.36 -0.863,-54.36 ; -1.21,-53.64 -0.863,-53.64 ; -1.21,-52.36 -0.863,-52.36 ; -1.21,-51.64 -0.863,-51.64 ; -1.21,-50.36 -0.863,-50.36 ; -1.21,-49.64 -0.863,-49.64 ; -1.21,-48.36 -0.863,-48.36 ; -1.21,-47.64 -0.863,-47.64 ; -1.21,-46.36 -0.863,-46.36 ; -1.21,-45.64 -0.863,-45.64 ; -1.21,-44.36 -0.863,-44.36 ; -1.21,-43.64 -0.863,-43.64 ; -1.21,-42.36 -0.863,-42.36 ; -1.21,-41.64 -0.863,-41.64 ; -1.21,-40.36 -0.863,-40.36 ; -1.21,-39.64 -0.863,-39.64 ; -1.21,-38.36 -0.863,-38.36 ; -1.21,-37.64 -0.863,-37.64 ; -1.21,-36.36 -0.863,-36.36 ; -1.21,-35.64 -0.863,-35.64 ; -1.21,-34.36 -0.863,-34.36 ; -1.21,-33.64 -0.863,-33.64 ; -1.21,-32.36 -0.863,-32.36 ; -1.21,-31.64 -0.863,-31.64 ; -1.21,-30.36 -0.863,-30.36 ; -1.21,-29.64 -0.863,-29.64 ; -1.21,-28.36 -0.863,-28.36 ; -1.21,-27.64 -0.863,-27.64 ; -1.21,-26.36 -0.863,-26.36 ; -1.21,-25.64 -0.863,-25.64 ; -1.21,-24.36 -0.863,-24.36 ; -1.21,-23.64 -0.863,-23.64 ; -1.21,-22.36 -0.863,-22.36 ; -1.21,-21.64 -0.863,-21.64 ; -1.21,-20.36 -0.863,-20.36 ; -1.21,-19.64 -0.863,-19.64 ; -1.21,-18.36 -0.863,-18.36 ; -1.21,-17.64 -0.863,-17.64 ; -1.21,-16.36 -0.863,-16.36 ; -1.21,-15.64 -0.863,-15.64 ; -1.21,-14.36 -0.863,-14.36 ; -1.21,-13.64 -0.863,-13.64 ; -1.21,-12.36 -0.863,-12.36 ; -1.21,-11.64 -0.863,-11.64 ; -1.21,-10.36 -0.863,-10.36 ; -1.21,-9.64 -0.863,-9.64 ; -1.21,-8.36 -0.863,-8.36 ; -1.21,-7.64 -0.863,-7.64 ; -1.21,-6.36 -0.863,-6.36 ; -1.21,-5.64 -0.863,-5.64 ; -1.21,-4.36 -0.863,-4.36 ; -1.21,-3.64 -0.863,-3.64 ; -1.21,-2.36 -0.863,-2.36 ; -1.21,-1.64 -0.863,-1.64 ; -1.21,-0.36 -0.935,-0.36 ; -1.21,0.36 -0.935,0.36 ; 0,1.06 0.935,1.06 0.935,0 ; -7.68,-69.06 -1.21,-69.06 -1.21,1.06 -7.68,1.06 -7.68,-69.06
Top Assembly:
  lines w0.254: -1.27,-68.3 0,-68.3 0,-67.7 -1.27,-67.7 ; -1.27,-66.3 0,-66.3 0,-65.7 -1.27,-65.7 ; -1.27,-64.3 0,-64.3 0,-63.7 -1.27,-63.7 ; -1.27,-62.3 0,-62.3 0,-61.7 -1.27,-61.7 ; -1.27,-60.3 0,-60.3 0,-59.7 -1.27,-59.7 ; -1.27,-58.3 0,-58.3 0,-57.7 -1.27,-57.7 ; -1.27,-56.3 0,-56.3 0,-55.7 -1.27,-55.7 ; -1.27,-54.3 0,-54.3 0,-53.7 -1.27,-53.7 ; -1.27,-52.3 0,-52.3 0,-51.7 -1.27,-51.7 ; -1.27,-50.3 0,-50.3 0,-49.7 -1.27,-49.7 ; -1.27,-48.3 0,-48.3 0,-47.7 -1.27,-47.7 ; -1.27,-46.3 0,-46.3 0,-45.7 -1.27,-45.7 ; -1.27,-44.3 0,-44.3 0,-43.7 -1.27,-43.7 ; -1.27,-42.3 0,-42.3 0,-41.7 -1.27,-41.7 ; -1.27,-40.3 0,-40.3 0,-39.7 -1.27,-39.7 ; -1.27,-38.3 0,-38.3 0,-37.7 -1.27,-37.7 ; -1.27,-36.3 0,-36.3 0,-35.7 -1.27,-35.7 ; -1.27,-34.3 0,-34.3 0,-33.7 -1.27,-33.7 ; -1.27,-32.3 0,-32.3 0,-31.7 -1.27,-31.7 ; -1.27,-30.3 0,-30.3 0,-29.7 -1.27,-29.7 ; -1.27,-28.3 0,-28.3 0,-27.7 -1.27,-27.7 ; -1.27,-26.3 0,-26.3 0,-25.7 -1.27,-25.7 ; -1.27,-24.3 0,-24.3 0,-23.7 -1.27,-23.7 ; -1.27,-22.3 0,-22.3 0,-21.7 -1.27,-21.7 ; -1.27,-20.3 0,-20.3 0,-19.7 -1.27,-19.7 ; -1.27,-18.3 0,-18.3 0,-17.7 -1.27,-17.7 ; -1.27,-16.3 0,-16.3 0,-15.7 -1.27,-15.7 ; -1.27,-14.3 0,-14.3 0,-13.7 -1.27,-13.7 ; -1.27,-12.3 0,-12.3 0,-11.7 -1.27,-11.7 ; -1.27,-10.3 0,-10.3 0,-9.7 -1.27,-9.7 ; -1.27,-8.3 0,-8.3 0,-7.7 -1.27,-7.7 ; -1.27,-6.3 0,-6.3 0,-5.7 -1.27,-5.7 ; -1.27,-4.3 0,-4.3 0,-3.7 -1.27,-3.7 ; -1.27,-2.3 0,-2.3 0,-1.7 -1.27,-1.7 ; -1.27,-0.3 0,-0.3 0,0.3 -1.27,0.3 ; -1.27,0.3 -1.27,-69 -7.62,-69 -7.62,1 -1.97,1 -1.27,0.3
  text "'.Designator'" at -3.605,-38.047 h1
Top Courtyard:
  lines w0.254: -8.15,-69.5 1.5,-69.5 1.5,1.5 -8.15,1.5 -8.15,-69.5
Top Designator:
  text ".Designator" at -10.943,-34.508 h1.52

## PinSocket_1x35_P2.00mm_Vertical [mm]
pads (35):
  rect 1.35x1.35 hole 0.8: 1(0,0)
  round 1.35 hole 0.8: 2(0,-2) 3(0,-4) 4(0,-6) 5(0,-8) 6(0,-10) 7(0,-12) 8(0,-14) 9(0,-16) 10(0,-18) 11(0,-20) 12(0,-22) 13(0,-24) 14(0,-26) 15(0,-28) 16(0,-30) 17(0,-32) 18(0,-34) 19(0,-36) 20(0,-38) 21(0,-40) 22(0,-42) 23(0,-44) 24(0,-46) 25(0,-48) 26(0,-50) 27(0,-52) 28(0,-54) 29(0,-56) 30(0,-58) 31(0,-60) 32(0,-62) 33(0,-64) 34(0,-66) 35(0,-68)
F.SilkS:
  lines w0.254: 0,1.06 1.06,1.06 1.06,0 ; -1.06,-69.06 1.06,-69.06 1.06,-1 -1.06,-1 -1.06,-69.06
Top Assembly:
  lines w0.254: -1,-69 1,-69 1,0.5 0.5,1 -1,1 -1,-69
  text "'.Designator'" at 0.84,-38.047 h1
Top Courtyard:
  lines w0.254: -1.5,-69.5 1.5,-69.5 1.5,1.5 -1.5,1.5 -1.5,-69.5
Top Designator:
  text ".Designator" at -7.618,-34.508 h1.52

## PinSocket_1x35_P2.00mm_Vertical_SMD_Pin1Left [mm]
pads (35):
  rect 2x0.9 smd: 1(-1.6,34) 2(1.6,32) 3(-1.6,30) 4(1.6,28) 5(-1.6,26) 6(1.6,24) 7(-1.6,22) 8(1.6,20) 9(-1.6,18) 10(1.6,16) 11(-1.6,14) 12(1.6,12) 13(-1.6,10) 14(1.6,8) 15(-1.6,6) 16(1.6,4) 17(-1.6,2) 18(1.6,0) 19(-1.6,-2) 20(1.6,-4) 21(-1.6,-6) 22(1.6,-8) 23(-1.6,-10) 24(1.6,-12) 25(-1.6,-14) 26(1.6,-16) 27(-1.6,-18) 28(1.6,-20) 29(-1.6,-22) 30(1.6,-24) 31(-1.6,-26) 32(1.6,-28) 33(-1.6,-30) 34(1.6,-32) 35(-1.6,-34)
F.SilkS:
  lines w0.254: -2.54,34.71 -1.31,34.71 -1.31,35.36 1.31,35.36 1.31,32.71 ; -1.31,-34.71 -1.31,-35.36 1.31,-35.36 1.31,-32.71 ; -1.31,-33.29 -1.31,-30.71 ; -1.31,-29.29 -1.31,-26.71 ; -1.31,-25.29 -1.31,-22.71 ; -1.31,-21.29 -1.31,-18.71 ; -1.31,-17.29 -1.31,-14.71 ; -1.31,-13.29 -1.31,-10.71 ; -1.31,-9.29 -1.31,-6.71 ; -1.31,-5.29 -1.31,-2.71 ; -1.31,-1.29 -1.31,1.29 ; -1.31,2.71 -1.31,5.29 ; -1.31,6.71 -1.31,9.29 ; -1.31,10.71 -1.31,13.29 ; -1.31,14.71 -1.31,17.29 ; -1.31,18.71 -1.31,21.29 ; -1.31,22.71 -1.31,25.29 ; -1.31,26.71 -1.31,29.29 ; -1.31,30.71 -1.31,33.29 ; 1.31,-31.29 1.31,-28.71 ; 1.31,-27.29 1.31,-24.71 ; 1.31,-23.29 1.31,-20.71 ; 1.31,-19.29 1.31,-16.71 ; 1.31,-15.29 1.31,-12.71 ; 1.31,-11.29 1.31,-8.71 ; 1.31,-7.29 1.31,-4.71 ; 1.31,-3.29 1.31,-0.71 ; 1.31,0.71 1.31,3.29 ; 1.31,4.71 1.31,7.29 ; 1.31,8.71 1.31,11.29 ; 1.31,12.71 1.31,15.29 ; 1.31,16.71 1.31,19.29 ; 1.31,20.71 1.31,23.29 ; 1.31,24.71 1.31,27.29 ; 1.31,28.71 1.31,31.29
Top Assembly:
  lines w0.254: -1.25,-34.25 -2.1,-34.25 -2.1,-33.75 -1.25,-33.75 ; -1.25,-30.25 -2.1,-30.25 -2.1,-29.75 -1.25,-29.75 ; -1.25,-26.25 -2.1,-26.25 -2.1,-25.75 -1.25,-25.75 ; -1.25,-22.25 -2.1,-22.25 -2.1,-21.75 -1.25,-21.75 ; -1.25,-18.25 -2.1,-18.25 -2.1,-17.75 -1.25,-17.75 ; -1.25,-14.25 -2.1,-14.25 -2.1,-13.75 -1.25,-13.75 ; -1.25,-10.25 -2.1,-10.25 -2.1,-9.75 -1.25,-9.75 ; -1.25,-6.25 -2.1,-6.25 -2.1,-5.75 -1.25,-5.75 ; -1.25,-2.25 -2.1,-2.25 -2.1,-1.75 -1.25,-1.75 ; -1.25,1.75 -2.1,1.75 -2.1,2.25 -1.25,2.25 ; -1.25,5.75 -2.1,5.75 -2.1,6.25 -1.25,6.25 ; -1.25,9.75 -2.1,9.75 -2.1,10.25 -1.25,10.25 ; -1.25,13.75 -2.1,13.75 -2.1,14.25 -1.25,14.25 ; -1.25,17.75 -2.1,17.75 -2.1,18.25 -1.25,18.25 ; -1.25,21.75 -2.1,21.75 -2.1,22.25 -1.25,22.25 ; -1.25,25.75 -2.1,25.75 -2.1,26.25 -1.25,26.25 ; -1.25,29.75 -2.1,29.75 -2.1,30.25 -1.25,30.25 ; -1.25,33.75 -2.1,33.75 -2.1,34.25 -1.25,34.25 ; 1.25,-32.25 2.1,-32.25 2.1,-31.75 1.25,-31.75 ; 1.25,-28.25 2.1,-28.25 2.1,-27.75 1.25,-27.75 ; 1.25,-24.25 2.1,-24.25 2.1,-23.75 1.25,-23.75 ; 1.25,-20.25 2.1,-20.25 2.1,-19.75 1.25,-19.75 ; 1.25,-16.25 2.1,-16.25 2.1,-15.75 1.25,-15.75 ; 1.25,-12.25 2.1,-12.25 2.1,-11.75 1.25,-11.75 ; 1.25,-8.25 2.1,-8.25 2.1,-7.75 1.25,-7.75 ; 1.25,-4.25 2.1,-4.25 2.1,-3.75 1.25,-3.75 ; 1.25,-0.25 2.1,-0.25 2.1,0.25 1.25,0.25 ; 1.25,3.75 2.1,3.75 2.1,4.25 1.25,4.25 ; 1.25,7.75 2.1,7.75 2.1,8.25 1.25,8.25 ; 1.25,11.75 2.1,11.75 2.1,12.25 1.25,12.25 ; 1.25,15.75 2.1,15.75 2.1,16.25 1.25,16.25 ; 1.25,19.75 2.1,19.75 2.1,20.25 1.25,20.25 ; 1.25,23.75 2.1,23.75 2.1,24.25 1.25,24.25 ; 1.25,27.75 2.1,27.75 2.1,28.25 1.25,28.25 ; 1.25,31.75 2.1,31.75 2.1,32.25 1.25,32.25 ; -1.25,-35.3 1.25,-35.3 1.25,35.3 -0.625,35.3 -1.25,34.675 -1.25,-35.3
  text "'.Designator'" at 0.84,-4.047 h1
Top Courtyard:
  lines w0.254: -3.1,-35.8 3.1,-35.8 3.1,35.8 -3.1,35.8 -3.1,-35.8
Top Designator:
  text ".Designator" at -7.618,-0.508 h1.52

## PinSocket_1x35_P2.00mm_Vertical_SMD_Pin1Right [mm]
pads (35):
  rect 2x0.9 smd: 1(1.6,34) 2(-1.6,32) 3(1.6,30) 4(-1.6,28) 5(1.6,26) 6(-1.6,24) 7(1.6,22) 8(-1.6,20) 9(1.6,18) 10(-1.6,16) 11(1.6,14) 12(-1.6,12) 13(1.6,10) 14(-1.6,8) 15(1.6,6) 16(-1.6,4) 17(1.6,2) 18(-1.6,0) 19(1.6,-2) 20(-1.6,-4) 21(1.6,-6) 22(-1.6,-8) 23(1.6,-10) 24(-1.6,-12) 25(1.6,-14) 26(-1.6,-16) 27(1.6,-18) 28(-1.6,-20) 29(1.6,-22) 30(-1.6,-24) 31(1.6,-26) 32(-1.6,-28) 33(1.6,-30) 34(-1.6,-32) 35(1.6,-34)
F.SilkS:
  lines w0.254: -1.31,-32.71 -1.31,-35.36 1.31,-35.36 1.31,-34.71 ; -1.31,-31.29 -1.31,-28.71 ; -1.31,-27.29 -1.31,-24.71 ; -1.31,-23.29 -1.31,-20.71 ; -1.31,-19.29 -1.31,-16.71 ; -1.31,-15.29 -1.31,-12.71 ; -1.31,-11.29 -1.31,-8.71 ; -1.31,-7.29 -1.31,-4.71 ; -1.31,-3.29 -1.31,-0.71 ; -1.31,0.71 -1.31,3.29 ; -1.31,4.71 -1.31,7.29 ; -1.31,8.71 -1.31,11.29 ; -1.31,12.71 -1.31,15.29 ; -1.31,16.71 -1.31,19.29 ; -1.31,20.71 -1.31,23.29 ; -1.31,24.71 -1.31,27.29 ; -1.31,28.71 -1.31,31.29 ; -1.31,32.71 -1.31,35.36 1.31,35.36 1.31,34.71 2.54,34.71 ; 1.31,-33.29 1.31,-30.71 ; 1.31,-29.29 1.31,-26.71 ; 1.31,-25.29 1.31,-22.71 ; 1.31,-21.29 1.31,-18.71 ; 1.31,-17.29 1.31,-14.71 ; 1.31,-13.29 1.31,-10.71 ; 1.31,-9.29 1.31,-6.71 ; 1.31,-5.29 1.31,-2.71 ; 1.31,-1.29 1.31,1.29 ; 1.31,2.71 1.31,5.29 ; 1.31,6.71 1.31,9.29 ; 1.31,10.71 1.31,13.29 ; 1.31,14.71 1.31,17.29 ; 1.31,18.71 1.31,21.29 ; 1.31,22.71 1.31,25.29 ; 1.31,26.71 1.31,29.29 ; 1.31,30.71 1.31,33.29
Top Assembly:
  lines w0.254: -1.25,-32.25 -2.1,-32.25 -2.1,-31.75 -1.25,-31.75 ; -1.25,-28.25 -2.1,-28.25 -2.1,-27.75 -1.25,-27.75 ; -1.25,-24.25 -2.1,-24.25 -2.1,-23.75 -1.25,-23.75 ; -1.25,-20.25 -2.1,-20.25 -2.1,-19.75 -1.25,-19.75 ; -1.25,-16.25 -2.1,-16.25 -2.1,-15.75 -1.25,-15.75 ; -1.25,-12.25 -2.1,-12.25 -2.1,-11.75 -1.25,-11.75 ; -1.25,-8.25 -2.1,-8.25 -2.1,-7.75 -1.25,-7.75 ; -1.25,-4.25 -2.1,-4.25 -2.1,-3.75 -1.25,-3.75 ; -1.25,-0.25 -2.1,-0.25 -2.1,0.25 -1.25,0.25 ; -1.25,3.75 -2.1,3.75 -2.1,4.25 -1.25,4.25 ; -1.25,7.75 -2.1,7.75 -2.1,8.25 -1.25,8.25 ; -1.25,11.75 -2.1,11.75 -2.1,12.25 -1.25,12.25 ; -1.25,15.75 -2.1,15.75 -2.1,16.25 -1.25,16.25 ; -1.25,19.75 -2.1,19.75 -2.1,20.25 -1.25,20.25 ; -1.25,23.75 -2.1,23.75 -2.1,24.25 -1.25,24.25 ; -1.25,27.75 -2.1,27.75 -2.1,28.25 -1.25,28.25 ; -1.25,31.75 -2.1,31.75 -2.1,32.25 -1.25,32.25 ; 1.25,-34.25 2.1,-34.25 2.1,-33.75 1.25,-33.75 ; 1.25,-30.25 2.1,-30.25 2.1,-29.75 1.25,-29.75 ; 1.25,-26.25 2.1,-26.25 2.1,-25.75 1.25,-25.75 ; 1.25,-22.25 2.1,-22.25 2.1,-21.75 1.25,-21.75 ; 1.25,-18.25 2.1,-18.25 2.1,-17.75 1.25,-17.75 ; 1.25,-14.25 2.1,-14.25 2.1,-13.75 1.25,-13.75 ; 1.25,-10.25 2.1,-10.25 2.1,-9.75 1.25,-9.75 ; 1.25,-6.25 2.1,-6.25 2.1,-5.75 1.25,-5.75 ; 1.25,-2.25 2.1,-2.25 2.1,-1.75 1.25,-1.75 ; 1.25,1.75 2.1,1.75 2.1,2.25 1.25,2.25 ; 1.25,5.75 2.1,5.75 2.1,6.25 1.25,6.25 ; 1.25,9.75 2.1,9.75 2.1,10.25 1.25,10.25 ; 1.25,13.75 2.1,13.75 2.1,14.25 1.25,14.25 ; 1.25,17.75 2.1,17.75 2.1,18.25 1.25,18.25 ; 1.25,21.75 2.1,21.75 2.1,22.25 1.25,22.25 ; 1.25,25.75 2.1,25.75 2.1,26.25 1.25,26.25 ; 1.25,29.75 2.1,29.75 2.1,30.25 1.25,30.25 ; 1.25,33.75 2.1,33.75 2.1,34.25 1.25,34.25 ; -1.25,-35.3 1.25,-35.3 1.25,34.675 0.625,35.3 -1.25,35.3 -1.25,-35.3
  text "'.Designator'" at 0.84,-4.047 h1
Top Courtyard:
  lines w0.254: -3.1,-35.8 3.1,-35.8 3.1,35.8 -3.1,35.8 -3.1,-35.8
Top Designator:
  text ".Designator" at -7.618,-0.508 h1.52

## PinSocket_1x36_P2.00mm_Horizontal [mm]
pads (36):
  rect 1.35x1.35 hole 0.8: 1(0,0)
  round 1.35 hole 0.8: 2(0,-2) 3(0,-4) 4(0,-6) 5(0,-8) 6(0,-10) 7(0,-12) 8(0,-14) 9(0,-16) 10(0,-18) 11(0,-20) 12(0,-22) 13(0,-24) 14(0,-26) 15(0,-28) 16(0,-30) 17(0,-32) 18(0,-34) 19(0,-36) 20(0,-38) 21(0,-40) 22(0,-42) 23(0,-44) 24(0,-46) 25(0,-48) 26(0,-50) 27(0,-52) 28(0,-54) 29(0,-56) 30(0,-58) 31(0,-60) 32(0,-62) 33(0,-64) 34(0,-66) 35(0,-68) 36(0,-70)
F.SilkS:
  lines w0.254: -7.68,-69 -1.21,-69 ; -7.68,-67 -1.21,-67 ; -7.68,-65 -1.21,-65 ; -7.68,-63 -1.21,-63 ; -7.68,-61 -1.21,-61 ; -7.68,-59 -1.21,-59 ; -7.68,-57 -1.21,-57 ; -7.68,-55 -1.21,-55 ; -7.68,-53 -1.21,-53 ; -7.68,-51 -1.21,-51 ; -7.68,-49 -1.21,-49 ; -7.68,-47 -1.21,-47 ; -7.68,-45 -1.21,-45 ; -7.68,-43 -1.21,-43 ; -7.68,-41 -1.21,-41 ; -7.68,-39 -1.21,-39 ; -7.68,-37 -1.21,-37 ; -7.68,-35 -1.21,-35 ; -7.68,-33 -1.21,-33 ; -7.68,-31 -1.21,-31 ; -7.68,-29 -1.21,-29 ; -7.68,-27 -1.21,-27 ; -7.68,-25 -1.21,-25 ; -7.68,-23 -1.21,-23 ; -7.68,-21 -1.21,-21 ; -7.68,-19 -1.21,-19 ; -7.68,-17 -1.21,-17 ; -7.68,-15 -1.21,-15 ; -7.68,-13 -1.21,-13 ; -7.68,-11 -1.21,-11 ; -7.68,-9 -1.21,-9 ; -7.68,-7 -1.21,-7 ; -7.68,-5 -1.21,-5 ; -7.68,-3 -1.21,-3 ; -7.68,-1 -1.21,-1 ; -7.68,-0.886 -1.21,-0.886 ; -7.68,-0.772 -1.21,-0.772 ; -7.68,-0.658 -1.21,-0.658 ; -7.68,-0.544 -1.21,-0.544 ; -7.68,-0.429 -1.21,-0.429 ; -7.68,-0.315 -1.21,-0.315 ; -7.68,-0.201 -1.21,-0.201 ; -7.68,-0.087 -1.21,-0.087 ; -7.68,0.027 -1.21,0.027 ; -7.68,0.141 -1.21,0.141 ; -7.68,0.255 -1.21,0.255 ; -7.68,0.369 -1.21,0.369 ; -7.68,0.484 -1.21,0.484 ; -7.68,0.598 -1.21,0.598 ; -7.68,0.712 -1.21,0.712 ; -7.68,0.826 -1.21,0.826 ; -7.68,0.94 -1.21,0.94 ; -1.21,-70.36 -0.863,-70.36 ; -1.21,-69.64 -0.863,-69.64 ; -1.21,-68.36 -0.863,-68.36 ; -1.21,-67.64 -0.863,-67.64 ; -1.21,-66.36 -0.863,-66.36 ; -1.21,-65.64 -0.863,-65.64 ; -1.21,-64.36 -0.863,-64.36 ; -1.21,-63.64 -0.863,-63.64 ; -1.21,-62.36 -0.863,-62.36 ; -1.21,-61.64 -0.863,-61.64 ; -1.21,-60.36 -0.863,-60.36 ; -1.21,-59.64 -0.863,-59.64 ; -1.21,-58.36 -0.863,-58.36 ; -1.21,-57.64 -0.863,-57.64 ; -1.21,-56.36 -0.863,-56.36 ; -1.21,-55.64 -0.863,-55.64 ; -1.21,-54.36 -0.863,-54.36 ; -1.21,-53.64 -0.863,-53.64 ; -1.21,-52.36 -0.863,-52.36 ; -1.21,-51.64 -0.863,-51.64 ; -1.21,-50.36 -0.863,-50.36 ; -1.21,-49.64 -0.863,-49.64 ; -1.21,-48.36 -0.863,-48.36 ; -1.21,-47.64 -0.863,-47.64 ; -1.21,-46.36 -0.863,-46.36 ; -1.21,-45.64 -0.863,-45.64 ; -1.21,-44.36 -0.863,-44.36 ; -1.21,-43.64 -0.863,-43.64 ; -1.21,-42.36 -0.863,-42.36 ; -1.21,-41.64 -0.863,-41.64 ; -1.21,-40.36 -0.863,-40.36 ; -1.21,-39.64 -0.863,-39.64 ; -1.21,-38.36 -0.863,-38.36 ; -1.21,-37.64 -0.863,-37.64 ; -1.21,-36.36 -0.863,-36.36 ; -1.21,-35.64 -0.863,-35.64 ; -1.21,-34.36 -0.863,-34.36 ; -1.21,-33.64 -0.863,-33.64 ; -1.21,-32.36 -0.863,-32.36 ; -1.21,-31.64 -0.863,-31.64 ; -1.21,-30.36 -0.863,-30.36 ; -1.21,-29.64 -0.863,-29.64 ; -1.21,-28.36 -0.863,-28.36 ; -1.21,-27.64 -0.863,-27.64 ; -1.21,-26.36 -0.863,-26.36 ; -1.21,-25.64 -0.863,-25.64 ; -1.21,-24.36 -0.863,-24.36 ; -1.21,-23.64 -0.863,-23.64 ; -1.21,-22.36 -0.863,-22.36 ; -1.21,-21.64 -0.863,-21.64 ; -1.21,-20.36 -0.863,-20.36 ; -1.21,-19.64 -0.863,-19.64 ; -1.21,-18.36 -0.863,-18.36 ; -1.21,-17.64 -0.863,-17.64 ; -1.21,-16.36 -0.863,-16.36 ; -1.21,-15.64 -0.863,-15.64 ; -1.21,-14.36 -0.863,-14.36 ; -1.21,-13.64 -0.863,-13.64 ; -1.21,-12.36 -0.863,-12.36 ; -1.21,-11.64 -0.863,-11.64 ; -1.21,-10.36 -0.863,-10.36 ; -1.21,-9.64 -0.863,-9.64 ; -1.21,-8.36 -0.863,-8.36 ; -1.21,-7.64 -0.863,-7.64 ; -1.21,-6.36 -0.863,-6.36 ; -1.21,-5.64 -0.863,-5.64 ; -1.21,-4.36 -0.863,-4.36 ; -1.21,-3.64 -0.863,-3.64 ; -1.21,-2.36 -0.863,-2.36 ; -1.21,-1.64 -0.863,-1.64 ; -1.21,-0.36 -0.935,-0.36 ; -1.21,0.36 -0.935,0.36 ; 0,1.06 0.935,1.06 0.935,0 ; -7.68,-71.06 -1.21,-71.06 -1.21,1.06 -7.68,1.06 -7.68,-71.06
Top Assembly:
  lines w0.254: -1.27,-70.3 0,-70.3 0,-69.7 -1.27,-69.7 ; -1.27,-68.3 0,-68.3 0,-67.7 -1.27,-67.7 ; -1.27,-66.3 0,-66.3 0,-65.7 -1.27,-65.7 ; -1.27,-64.3 0,-64.3 0,-63.7 -1.27,-63.7 ; -1.27,-62.3 0,-62.3 0,-61.7 -1.27,-61.7 ; -1.27,-60.3 0,-60.3 0,-59.7 -1.27,-59.7 ; -1.27,-58.3 0,-58.3 0,-57.7 -1.27,-57.7 ; -1.27,-56.3 0,-56.3 0,-55.7 -1.27,-55.7 ; -1.27,-54.3 0,-54.3 0,-53.7 -1.27,-53.7 ; -1.27,-52.3 0,-52.3 0,-51.7 -1.27,-51.7 ; -1.27,-50.3 0,-50.3 0,-49.7 -1.27,-49.7 ; -1.27,-48.3 0,-48.3 0,-47.7 -1.27,-47.7 ; -1.27,-46.3 0,-46.3 0,-45.7 -1.27,-45.7 ; -1.27,-44.3 0,-44.3 0,-43.7 -1.27,-43.7 ; -1.27,-42.3 0,-42.3 0,-41.7 -1.27,-41.7 ; -1.27,-40.3 0,-40.3 0,-39.7 -1.27,-39.7 ; -1.27,-38.3 0,-38.3 0,-37.7 -1.27,-37.7 ; -1.27,-36.3 0,-36.3 0,-35.7 -1.27,-35.7 ; -1.27,-34.3 0,-34.3 0,-33.7 -1.27,-33.7 ; -1.27,-32.3 0,-32.3 0,-31.7 -1.27,-31.7 ; -1.27,-30.3 0,-30.3 0,-29.7 -1.27,-29.7 ; -1.27,-28.3 0,-28.3 0,-27.7 -1.27,-27.7 ; -1.27,-26.3 0,-26.3 0,-25.7 -1.27,-25.7 ; -1.27,-24.3 0,-24.3 0,-23.7 -1.27,-23.7 ; -1.27,-22.3 0,-22.3 0,-21.7 -1.27,-21.7 ; -1.27,-20.3 0,-20.3 0,-19.7 -1.27,-19.7 ; -1.27,-18.3 0,-18.3 0,-17.7 -1.27,-17.7 ; -1.27,-16.3 0,-16.3 0,-15.7 -1.27,-15.7 ; -1.27,-14.3 0,-14.3 0,-13.7 -1.27,-13.7 ; -1.27,-12.3 0,-12.3 0,-11.7 -1.27,-11.7 ; -1.27,-10.3 0,-10.3 0,-9.7 -1.27,-9.7 ; -1.27,-8.3 0,-8.3 0,-7.7 -1.27,-7.7 ; -1.27,-6.3 0,-6.3 0,-5.7 -1.27,-5.7 ; -1.27,-4.3 0,-4.3 0,-3.7 -1.27,-3.7 ; -1.27,-2.3 0,-2.3 0,-1.7 -1.27,-1.7 ; -1.27,-0.3 0,-0.3 0,0.3 -1.27,0.3 ; -1.27,0.3 -1.27,-71 -7.62,-71 -7.62,1 -1.97,1 -1.27,0.3
  text "'.Designator'" at -3.605,-39.047 h1
Top Courtyard:
  lines w0.254: -8.15,-71.5 1.5,-71.5 1.5,1.5 -8.15,1.5 -8.15,-71.5
Top Designator:
  text ".Designator" at -10.943,-35.508 h1.52

## PinSocket_1x36_P2.00mm_Vertical [mm]
pads (36):
  rect 1.35x1.35 hole 0.8: 1(0,0)
  round 1.35 hole 0.8: 2(0,-2) 3(0,-4) 4(0,-6) 5(0,-8) 6(0,-10) 7(0,-12) 8(0,-14) 9(0,-16) 10(0,-18) 11(0,-20) 12(0,-22) 13(0,-24) 14(0,-26) 15(0,-28) 16(0,-30) 17(0,-32) 18(0,-34) 19(0,-36) 20(0,-38) 21(0,-40) 22(0,-42) 23(0,-44) 24(0,-46) 25(0,-48) 26(0,-50) 27(0,-52) 28(0,-54) 29(0,-56) 30(0,-58) 31(0,-60) 32(0,-62) 33(0,-64) 34(0,-66) 35(0,-68) 36(0,-70)
F.SilkS:
  lines w0.254: 0,1.06 1.06,1.06 1.06,0 ; -1.06,-71.06 1.06,-71.06 1.06,-1 -1.06,-1 -1.06,-71.06
Top Assembly:
  lines w0.254: -1,-71 1,-71 1,0.5 0.5,1 -1,1 -1,-71
  text "'.Designator'" at 0.84,-39.047 h1
Top Courtyard:
  lines w0.254: -1.5,-71.5 1.5,-71.5 1.5,1.5 -1.5,1.5 -1.5,-71.5
Top Designator:
  text ".Designator" at -7.618,-35.508 h1.52

## PinSocket_1x36_P2.00mm_Vertical_SMD_Pin1Left [mm]
pads (36):
  rect 2x0.9 smd: 1(-1.6,35) 2(1.6,33) 3(-1.6,31) 4(1.6,29) 5(-1.6,27) 6(1.6,25) 7(-1.6,23) 8(1.6,21) 9(-1.6,19) 10(1.6,17) 11(-1.6,15) 12(1.6,13) 13(-1.6,11) 14(1.6,9) 15(-1.6,7) 16(1.6,5) 17(-1.6,3) 18(1.6,1) 19(-1.6,-1) 20(1.6,-3) 21(-1.6,-5) 22(1.6,-7) 23(-1.6,-9) 24(1.6,-11) 25(-1.6,-13) 26(1.6,-15) 27(-1.6,-17) 28(1.6,-19) 29(-1.6,-21) 30(1.6,-23) 31(-1.6,-25) 32(1.6,-27) 33(-1.6,-29) 34(1.6,-31) 35(-1.6,-33) 36(1.6,-35)
F.SilkS:
  lines w0.254: -2.54,35.71 -1.31,35.71 -1.31,36.36 1.31,36.36 1.31,33.71 ; -1.31,-33.71 -1.31,-36.36 1.31,-36.36 1.31,-35.71 ; -1.31,-32.29 -1.31,-29.71 ; -1.31,-28.29 -1.31,-25.71 ; -1.31,-24.29 -1.31,-21.71 ; -1.31,-20.29 -1.31,-17.71 ; -1.31,-16.29 -1.31,-13.71 ; -1.31,-12.29 -1.31,-9.71 ; -1.31,-8.29 -1.31,-5.71 ; -1.31,-4.29 -1.31,-1.71 ; -1.31,-0.29 -1.31,2.29 ; -1.31,3.71 -1.31,6.29 ; -1.31,7.71 -1.31,10.29 ; -1.31,11.71 -1.31,14.29 ; -1.31,15.71 -1.31,18.29 ; -1.31,19.71 -1.31,22.29 ; -1.31,23.71 -1.31,26.29 ; -1.31,27.71 -1.31,30.29 ; -1.31,31.71 -1.31,34.29 ; 1.31,-34.29 1.31,-31.71 ; 1.31,-30.29 1.31,-27.71 ; 1.31,-26.29 1.31,-23.71 ; 1.31,-22.29 1.31,-19.71 ; 1.31,-18.29 1.31,-15.71 ; 1.31,-14.29 1.31,-11.71 ; 1.31,-10.29 1.31,-7.71 ; 1.31,-6.29 1.31,-3.71 ; 1.31,-2.29 1.31,0.29 ; 1.31,1.71 1.31,4.29 ; 1.31,5.71 1.31,8.29 ; 1.31,9.71 1.31,12.29 ; 1.31,13.71 1.31,16.29 ; 1.31,17.71 1.31,20.29 ; 1.31,21.71 1.31,24.29 ; 1.31,25.71 1.31,28.29 ; 1.31,29.71 1.31,32.29
Top Assembly:
  lines w0.254: -1.25,-33.25 -2.1,-33.25 -2.1,-32.75 -1.25,-32.75 ; -1.25,-29.25 -2.1,-29.25 -2.1,-28.75 -1.25,-28.75 ; -1.25,-25.25 -2.1,-25.25 -2.1,-24.75 -1.25,-24.75 ; -1.25,-21.25 -2.1,-21.25 -2.1,-20.75 -1.25,-20.75 ; -1.25,-17.25 -2.1,-17.25 -2.1,-16.75 -1.25,-16.75 ; -1.25,-13.25 -2.1,-13.25 -2.1,-12.75 -1.25,-12.75 ; -1.25,-9.25 -2.1,-9.25 -2.1,-8.75 -1.25,-8.75 ; -1.25,-5.25 -2.1,-5.25 -2.1,-4.75 -1.25,-4.75 ; -1.25,-1.25 -2.1,-1.25 -2.1,-0.75 -1.25,-0.75 ; -1.25,2.75 -2.1,2.75 -2.1,3.25 -1.25,3.25 ; -1.25,6.75 -2.1,6.75 -2.1,7.25 -1.25,7.25 ; -1.25,10.75 -2.1,10.75 -2.1,11.25 -1.25,11.25 ; -1.25,14.75 -2.1,14.75 -2.1,15.25 -1.25,15.25 ; -1.25,18.75 -2.1,18.75 -2.1,19.25 -1.25,19.25 ; -1.25,22.75 -2.1,22.75 -2.1,23.25 -1.25,23.25 ; -1.25,26.75 -2.1,26.75 -2.1,27.25 -1.25,27.25 ; -1.25,30.75 -2.1,30.75 -2.1,31.25 -1.25,31.25 ; -1.25,34.75 -2.1,34.75 -2.1,35.25 -1.25,35.25 ; 1.25,-35.25 2.1,-35.25 2.1,-34.75 1.25,-34.75 ; 1.25,-31.25 2.1,-31.25 2.1,-30.75 1.25,-30.75 ; 1.25,-27.25 2.1,-27.25 2.1,-26.75 1.25,-26.75 ; 1.25,-23.25 2.1,-23.25 2.1,-22.75 1.25,-22.75 ; 1.25,-19.25 2.1,-19.25 2.1,-18.75 1.25,-18.75 ; 1.25,-15.25 2.1,-15.25 2.1,-14.75 1.25,-14.75 ; 1.25,-11.25 2.1,-11.25 2.1,-10.75 1.25,-10.75 ; 1.25,-7.25 2.1,-7.25 2.1,-6.75 1.25,-6.75 ; 1.25,-3.25 2.1,-3.25 2.1,-2.75 1.25,-2.75 ; 1.25,0.75 2.1,0.75 2.1,1.25 1.25,1.25 ; 1.25,4.75 2.1,4.75 2.1,5.25 1.25,5.25 ; 1.25,8.75 2.1,8.75 2.1,9.25 1.25,9.25 ; 1.25,12.75 2.1,12.75 2.1,13.25 1.25,13.25 ; 1.25,16.75 2.1,16.75 2.1,17.25 1.25,17.25 ; 1.25,20.75 2.1,20.75 2.1,21.25 1.25,21.25 ; 1.25,24.75 2.1,24.75 2.1,25.25 1.25,25.25 ; 1.25,28.75 2.1,28.75 2.1,29.25 1.25,29.25 ; 1.25,32.75 2.1,32.75 2.1,33.25 1.25,33.25 ; -1.25,-36.3 1.25,-36.3 1.25,36.3 -0.625,36.3 -1.25,35.675 -1.25,-36.3
  text "'.Designator'" at 0.84,-4.047 h1
Top Courtyard:
  lines w0.254: -3.1,-36.8 3.1,-36.8 3.1,36.8 -3.1,36.8 -3.1,-36.8
Top Designator:
  text ".Designator" at -7.618,-0.508 h1.52

## PinSocket_1x36_P2.00mm_Vertical_SMD_Pin1Right [mm]
pads (36):
  rect 2x0.9 smd: 1(1.6,35) 2(-1.6,33) 3(1.6,31) 4(-1.6,29) 5(1.6,27) 6(-1.6,25) 7(1.6,23) 8(-1.6,21) 9(1.6,19) 10(-1.6,17) 11(1.6,15) 12(-1.6,13) 13(1.6,11) 14(-1.6,9) 15(1.6,7) 16(-1.6,5) 17(1.6,3) 18(-1.6,1) 19(1.6,-1) 20(-1.6,-3) 21(1.6,-5) 22(-1.6,-7) 23(1.6,-9) 24(-1.6,-11) 25(1.6,-13) 26(-1.6,-15) 27(1.6,-17) 28(-1.6,-19) 29(1.6,-21) 30(-1.6,-23) 31(1.6,-25) 32(-1.6,-27) 33(1.6,-29) 34(-1.6,-31) 35(1.6,-33) 36(-1.6,-35)
F.SilkS:
  lines w0.254: -1.31,-35.71 -1.31,-36.36 1.31,-36.36 1.31,-33.71 ; -1.31,-34.29 -1.31,-31.71 ; -1.31,-30.29 -1.31,-27.71 ; -1.31,-26.29 -1.31,-23.71 ; -1.31,-22.29 -1.31,-19.71 ; -1.31,-18.29 -1.31,-15.71 ; -1.31,-14.29 -1.31,-11.71 ; -1.31,-10.29 -1.31,-7.71 ; -1.31,-6.29 -1.31,-3.71 ; -1.31,-2.29 -1.31,0.29 ; -1.31,1.71 -1.31,4.29 ; -1.31,5.71 -1.31,8.29 ; -1.31,9.71 -1.31,12.29 ; -1.31,13.71 -1.31,16.29 ; -1.31,17.71 -1.31,20.29 ; -1.31,21.71 -1.31,24.29 ; -1.31,25.71 -1.31,28.29 ; -1.31,29.71 -1.31,32.29 ; -1.31,33.71 -1.31,36.36 1.31,36.36 1.31,35.71 2.54,35.71 ; 1.31,-32.29 1.31,-29.71 ; 1.31,-28.29 1.31,-25.71 ; 1.31,-24.29 1.31,-21.71 ; 1.31,-20.29 1.31,-17.71 ; 1.31,-16.29 1.31,-13.71 ; 1.31,-12.29 1.31,-9.71 ; 1.31,-8.29 1.31,-5.71 ; 1.31,-4.29 1.31,-1.71 ; 1.31,-0.29 1.31,2.29 ; 1.31,3.71 1.31,6.29 ; 1.31,7.71 1.31,10.29 ; 1.31,11.71 1.31,14.29 ; 1.31,15.71 1.31,18.29 ; 1.31,19.71 1.31,22.29 ; 1.31,23.71 1.31,26.29 ; 1.31,27.71 1.31,30.29 ; 1.31,31.71 1.31,34.29
Top Assembly:
  lines w0.254: -1.25,-35.25 -2.1,-35.25 -2.1,-34.75 -1.25,-34.75 ; -1.25,-31.25 -2.1,-31.25 -2.1,-30.75 -1.25,-30.75 ; -1.25,-27.25 -2.1,-27.25 -2.1,-26.75 -1.25,-26.75 ; -1.25,-23.25 -2.1,-23.25 -2.1,-22.75 -1.25,-22.75 ; -1.25,-19.25 -2.1,-19.25 -2.1,-18.75 -1.25,-18.75 ; -1.25,-15.25 -2.1,-15.25 -2.1,-14.75 -1.25,-14.75 ; -1.25,-11.25 -2.1,-11.25 -2.1,-10.75 -1.25,-10.75 ; -1.25,-7.25 -2.1,-7.25 -2.1,-6.75 -1.25,-6.75 ; -1.25,-3.25 -2.1,-3.25 -2.1,-2.75 -1.25,-2.75 ; -1.25,0.75 -2.1,0.75 -2.1,1.25 -1.25,1.25 ; -1.25,4.75 -2.1,4.75 -2.1,5.25 -1.25,5.25 ; -1.25,8.75 -2.1,8.75 -2.1,9.25 -1.25,9.25 ; -1.25,12.75 -2.1,12.75 -2.1,13.25 -1.25,13.25 ; -1.25,16.75 -2.1,16.75 -2.1,17.25 -1.25,17.25 ; -1.25,20.75 -2.1,20.75 -2.1,21.25 -1.25,21.25 ; -1.25,24.75 -2.1,24.75 -2.1,25.25 -1.25,25.25 ; -1.25,28.75 -2.1,28.75 -2.1,29.25 -1.25,29.25 ; -1.25,32.75 -2.1,32.75 -2.1,33.25 -1.25,33.25 ; 1.25,-33.25 2.1,-33.25 2.1,-32.75 1.25,-32.75 ; 1.25,-29.25 2.1,-29.25 2.1,-28.75 1.25,-28.75 ; 1.25,-25.25 2.1,-25.25 2.1,-24.75 1.25,-24.75 ; 1.25,-21.25 2.1,-21.25 2.1,-20.75 1.25,-20.75 ; 1.25,-17.25 2.1,-17.25 2.1,-16.75 1.25,-16.75 ; 1.25,-13.25 2.1,-13.25 2.1,-12.75 1.25,-12.75 ; 1.25,-9.25 2.1,-9.25 2.1,-8.75 1.25,-8.75 ; 1.25,-5.25 2.1,-5.25 2.1,-4.75 1.25,-4.75 ; 1.25,-1.25 2.1,-1.25 2.1,-0.75 1.25,-0.75 ; 1.25,2.75 2.1,2.75 2.1,3.25 1.25,3.25 ; 1.25,6.75 2.1,6.75 2.1,7.25 1.25,7.25 ; 1.25,10.75 2.1,10.75 2.1,11.25 1.25,11.25 ; 1.25,14.75 2.1,14.75 2.1,15.25 1.25,15.25 ; 1.25,18.75 2.1,18.75 2.1,19.25 1.25,19.25 ; 1.25,22.75 2.1,22.75 2.1,23.25 1.25,23.25 ; 1.25,26.75 2.1,26.75 2.1,27.25 1.25,27.25 ; 1.25,30.75 2.1,30.75 2.1,31.25 1.25,31.25 ; 1.25,34.75 2.1,34.75 2.1,35.25 1.25,35.25 ; -1.25,-36.3 1.25,-36.3 1.25,35.675 0.625,36.3 -1.25,36.3 -1.25,-36.3
  text "'.Designator'" at 0.84,-4.047 h1
Top Courtyard:
  lines w0.254: -3.1,-36.8 3.1,-36.8 3.1,36.8 -3.1,36.8 -3.1,-36.8
Top Designator:
  text ".Designator" at -7.618,-0.508 h1.52